# Altium footprint library S6LDC115-2002-1-1.PcbLib: 41 footprints (part 2 of 3)
Each footprint in its own frame and in the unit in brackets; x right, y up, seen from the top. Pads: shape width x height; smd on the part's side, far side on the other; paste and mask are expansions set on the pad; w line width, h text height; cw(c..) or ccw(c..) is an arc to the next point about the centre after c.
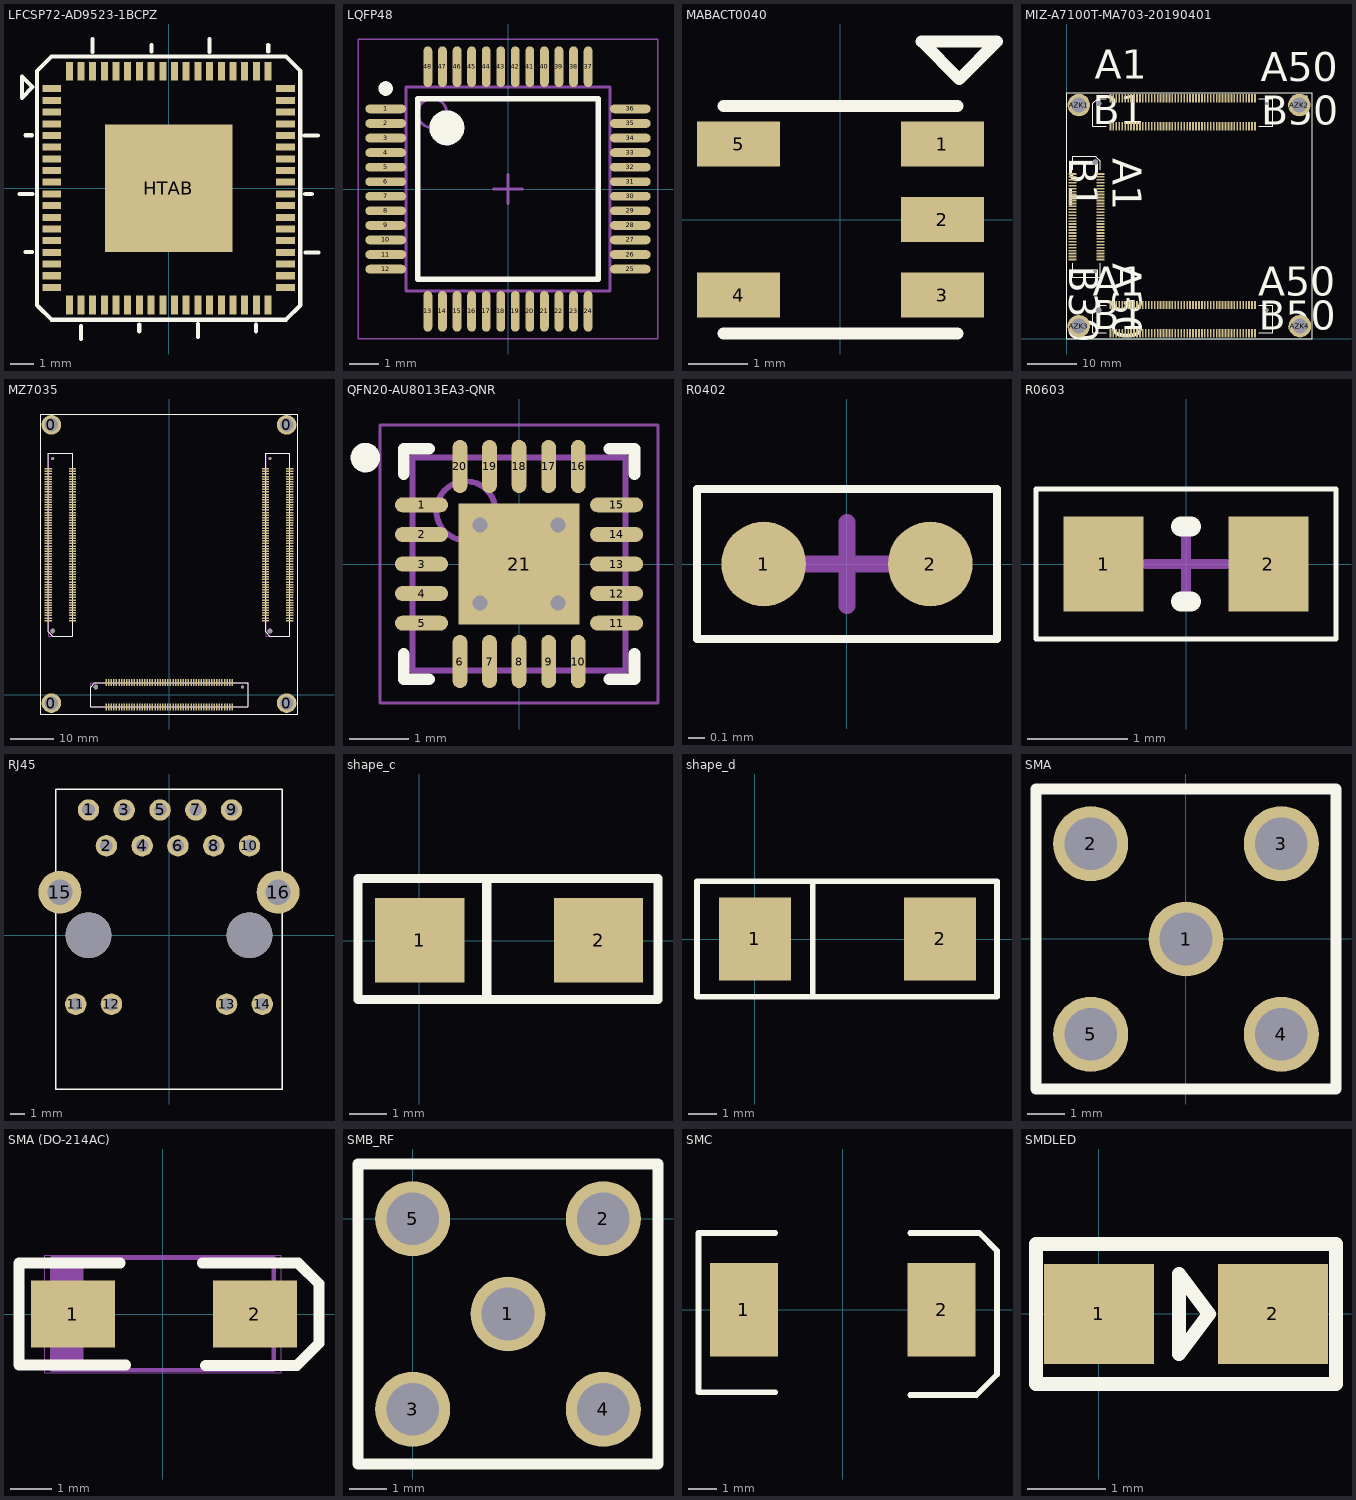
[diagram p1: the footprints below, top view; thin cyan lines are the x and y axes]

## LFCSP72-AD9523-1BCPZ [mm]
pads (73):
  rect 0.8x0.3 smd: 1(-5,4.25) 2(-5,3.75) 3(-5,3.25) 4(-5,2.75) 5(-5,2.25) 6(-5,1.75) 7(-5,1.25) 8(-5,0.75) 9(-5,0.25) 10(-5,-0.25) 11(-5,-0.75) 12(-5,-1.25) 13(-5,-1.75) 14(-5,-2.25) 15(-5,-2.75) 16(-5,-3.25) 17(-5,-3.75) 18(-5,-4.25) 37(5,-4.25) 38(5,-3.75) 39(5,-3.25) 40(5,-2.75) 41(5,-2.25) 42(5,-1.75) 43(5,-1.25) 44(5,-0.75) 45(5,-0.25) 46(5,0.25) 47(5,0.75) 48(5,1.25) 49(5,1.75) 50(5,2.25) 51(5,2.75) 52(5,3.25) 53(5,3.75) 54(5,4.25)
  rect 0.3x0.8 smd: 19(-4.25,-5) 20(-3.75,-5) 21(-3.25,-5) 22(-2.75,-5) 23(-2.25,-5) 24(-1.75,-5) 25(-1.25,-5) 26(-0.75,-5) 27(-0.25,-5) 28(0.25,-5) 29(0.75,-5) 30(1.25,-5) 31(1.75,-5) 32(2.25,-5) 33(2.75,-5) 34(3.25,-5) 35(3.75,-5) 36(4.25,-5) 55(4.25,5) 56(3.75,5) 57(3.25,5) 58(2.75,5) 59(2.25,5) 60(1.75,5) 61(1.25,5) 62(0.75,5) 63(0.25,5) 64(-0.25,5) 65(-0.75,5) 66(-1.25,5) 67(-1.75,5) 68(-2.25,5) 69(-2.75,5) 70(-3.25,5) 71(-3.75,5) 72(-4.25,5)
  rect 5.45x5.45 smd: HTAB(0,0)
Top Overlay:
  lines w0.178: -6.375,-0.254 -5.817,-0.254 ; -6.121,-2.739 -5.842,-2.739 ; -6.121,2.261 -5.842,2.261 ; -3.744,-6.455 -3.744,-5.897 ; -3.254,5.817 -3.254,6.375 ; -1.261,-6.121 -1.261,-5.842 ; -0.739,5.842 -0.739,6.121 ; 1.254,-6.375 1.254,-5.817 ; 1.746,5.817 1.746,6.375 ; 3.739,-6.121 3.739,-5.842 ; 4.261,5.842 4.261,6.121 ; 5.817,2.254 6.375,2.254 ; 5.842,-0.261 6.121,-0.261 ; 5.846,-2.754 6.405,-2.754 ; -6.274,3.861 -5.817,4.318 -6.274,4.775 -6.274,3.861 ; -5.63,-5.013 -5.013,-5.63 5.013,-5.63 5.63,-5.013 5.63,5.013 5.013,5.63 -5.013,5.63 -5.63,5.013 -5.63,-5.013

## LQFP48 [mm]
height 1.6
pads (48):
  oval 1.4x0.3 smd: 1(-4.2,2.75) 2(-4.2,2.25) 3(-4.2,1.75) 4(-4.2,1.25) 5(-4.2,0.75) 6(-4.2,0.25) 7(-4.2,-0.25) 8(-4.2,-0.75) 9(-4.2,-1.25) 10(-4.2,-1.75) 11(-4.2,-2.25) 12(-4.2,-2.75) 25(4.2,-2.75) 26(4.2,-2.25) 27(4.2,-1.75) 28(4.2,-1.25) 29(4.2,-0.75) 30(4.2,-0.25) 31(4.2,0.25) 32(4.2,0.75) 33(4.2,1.25) 34(4.2,1.75) 35(4.2,2.25) 36(4.2,2.75)
  oval 0.3x1.4 smd: 13(-2.75,-4.2) 14(-2.25,-4.2) 15(-1.75,-4.2) 16(-1.25,-4.2) 17(-0.75,-4.2) 18(-0.25,-4.2) 19(0.25,-4.2) 20(0.75,-4.2) 21(1.25,-4.2) 22(1.75,-4.2) 23(2.25,-4.2) 24(2.75,-4.2) 37(2.75,4.2) 38(2.25,4.2) 39(1.75,4.2) 40(1.25,4.2) 41(0.75,4.2) 42(0.25,4.2) 43(-0.25,4.2) 44(-0.75,4.2) 45(-1.25,4.2) 46(-1.75,4.2) 47(-2.25,4.2) 48(-2.75,4.2)
Top Overlay:
  circle w0.25: c-4.2,3.45 r0.125
  circle w0.6: c-2.1,2.1 r0.3
  lines w0.2: -3.1,-3.1 -3.1,3.1 3.1,3.1 3.1,-3.1 -3.1,-3.1
Mechanical 13:
  circle w0.1: c-2.6,2.6 r0.5
  lines w0.1: -3.5,-3.5 -3.5,3.5 3.5,3.5 3.5,-3.5 -3.5,-3.5
Mechanical 15:
  lines w0.05: -5.15,-5.15 -5.15,5.15 5.15,5.15 5.15,-5.15 -5.15,-5.15
  lines w0.1: -0.5,0 0.5,0 ; 0,-0.5 0,0.5
3D body: height 1.6, standoff 0.05, extent -3.5,-3.5 3.5,3.5

## MABACT0040 [mm]
pads (5):
  rect 1.4x0.76 smd: 1(1.715,1.27) 2(1.715,0) 3(1.715,-1.27) 4(-1.715,-1.27) 5(-1.715,1.27)
Top Overlay:
  lines w0.2: -1.97,-1.915 1.97,-1.915 ; -1.97,1.915 1.97,1.915 ; 1.365,3 2,2.365 2.635,3 1.365,3

## MIZ-A7100T-MA703-20190401 [mm]
pads (270):
  round 4.57 hole 3.1: AZK1(2.502,47.498) AZK2(47.333,47.498) AZK3(2.502,2.54) AZK4(47.46,2.54)
  rect 0.35x1.7 smd: Y-A1(8.922,48.857) Y-A2(9.522,48.857) Y-A3(10.122,48.857) Y-A4(10.722,48.857) Y-A5(11.322,48.857) Y-A6(11.922,48.857) Y-A7(12.522,48.857) Y-A8(13.122,48.857) Y-A9(13.722,48.857) Y-A10(14.322,48.857) Y-A11(14.922,48.857) Y-A12(15.522,48.857) Y-A13(16.122,48.857) Y-A14(16.722,48.857) Y-A15(17.322,48.857) Y-A16(17.922,48.857) Y-A17(18.522,48.857) Y-A18(19.122,48.857) Y-A19(19.722,48.857) Y-A20(20.322,48.857) Y-A21(20.922,48.857) Y-A22(21.522,48.857) Y-A23(22.122,48.857) Y-A24(22.722,48.857) Y-A25(23.322,48.857) Y-A26(23.922,48.857) Y-A27(24.522,48.857) Y-A28(25.122,48.857) Y-A29(25.722,48.857) Y-A30(26.322,48.857) Y-A31(26.922,48.857) Y-A32(27.522,48.857) Y-A33(28.122,48.857) Y-A34(28.722,48.857) Y-A35(29.322,48.857) Y-A36(29.922,48.857) Y-A37(30.522,48.857) Y-A38(31.122,48.857) Y-A39(31.722,48.857) Y-A40(32.322,48.857) Y-A41(32.922,48.857) Y-A42(33.522,48.857) Y-A43(34.122,48.857) Y-A44(34.722,48.857) Y-A45(35.322,48.857) Y-A46(35.922,48.857) Y-A47(36.522,48.857) Y-A48(37.122,48.857) Y-A49(37.722,48.857) Y-A50(38.322,48.857) Y-B1(8.922,43.157) Y-B2(9.522,43.157) Y-B3(10.122,43.157) Y-B4(10.722,43.157) Y-B5(11.322,43.157) Y-B6(11.922,43.157) Y-B7(12.522,43.157) Y-B8(13.122,43.157) Y-B9(13.722,43.157) Y-B10(14.322,43.157) Y-B11(14.922,43.157) Y-B12(15.522,43.157) Y-B13(16.122,43.157) Y-B14(16.722,43.157) Y-B15(17.322,43.157) Y-B16(17.922,43.157) Y-B17(18.522,43.157) Y-B18(19.122,43.157) Y-B19(19.722,43.157) Y-B20(20.322,43.157) Y-B21(20.922,43.157) Y-B22(21.522,43.157) Y-B23(22.122,43.157) Y-B24(22.722,43.157) Y-B25(23.322,43.157) Y-B26(23.922,43.157) Y-B27(24.522,43.157) Y-B28(25.122,43.157) Y-B29(25.722,43.157) Y-B30(26.322,43.157) Y-B31(26.922,43.157) Y-B32(27.522,43.157) Y-B33(28.122,43.157) Y-B34(28.722,43.157) Y-B35(29.322,43.157) Y-B36(29.922,43.157) Y-B37(30.522,43.157) Y-B38(31.122,43.157) Y-B39(31.722,43.157) Y-B40(32.322,43.157) Y-B41(32.922,43.157) Y-B42(33.522,43.157) Y-B43(34.122,43.157) Y-B44(34.722,43.157) Y-B45(35.322,43.157) Y-B46(35.922,43.157) Y-B47(36.522,43.157) Y-B48(37.122,43.157) Y-B49(37.722,43.157) Y-B50(38.322,43.157) Z-A1(8.922,6.82) Z-A2(9.522,6.82) Z-A3(10.122,6.82) Z-A4(10.722,6.82) Z-A5(11.322,6.82) Z-A6(11.922,6.82) Z-A7(12.522,6.82) Z-A8(13.122,6.82) Z-A9(13.722,6.82) Z-A10(14.322,6.82) Z-A11(14.922,6.82) Z-A12(15.522,6.82) Z-A13(16.122,6.82) Z-A14(16.722,6.82) Z-A15(17.322,6.82) Z-A16(17.922,6.82) Z-A17(18.522,6.82) Z-A18(19.122,6.82) Z-A19(19.722,6.82) Z-A20(20.322,6.82) Z-A21(20.922,6.82) Z-A22(21.522,6.82) Z-A23(22.122,6.82) Z-A24(22.722,6.82) Z-A25(23.322,6.82) Z-A26(23.922,6.82) Z-A27(24.522,6.82) Z-A28(25.122,6.82) Z-A29(25.722,6.82) Z-A30(26.322,6.82) Z-A31(26.922,6.82) Z-A32(27.522,6.82) Z-A33(28.122,6.82) Z-A34(28.722,6.82) Z-A35(29.322,6.82) Z-A36(29.922,6.82) Z-A37(30.522,6.82) Z-A38(31.122,6.82) Z-A39(31.722,6.82) Z-A40(32.322,6.82) Z-A41(32.922,6.82) Z-A42(33.522,6.82) Z-A43(34.122,6.82) Z-A44(34.722,6.82) Z-A45(35.322,6.82) Z-A46(35.922,6.82) Z-A47(36.522,6.82) Z-A48(37.122,6.82) Z-A49(37.722,6.82) Z-A50(38.322,6.82) Z-B1(8.922,1.12) Z-B2(9.522,1.12) Z-B3(10.122,1.12) Z-B4(10.722,1.12) Z-B5(11.322,1.12) Z-B6(11.922,1.12) Z-B7(12.522,1.12) Z-B8(13.122,1.12) Z-B9(13.722,1.12) Z-B10(14.322,1.12) Z-B11(14.922,1.12) Z-B12(15.522,1.12) Z-B13(16.122,1.12) Z-B14(16.722,1.12) Z-B15(17.322,1.12) Z-B16(17.922,1.12) Z-B17(18.522,1.12) Z-B18(19.122,1.12) Z-B19(19.722,1.12) Z-B20(20.322,1.12) Z-B21(20.922,1.12) Z-B22(21.522,1.12) Z-B23(22.122,1.12) Z-B24(22.722,1.12) Z-B25(23.322,1.12) Z-B26(23.922,1.12) Z-B27(24.522,1.12) Z-B28(25.122,1.12) Z-B29(25.722,1.12) Z-B30(26.322,1.12) Z-B31(26.922,1.12) Z-B32(27.522,1.12) Z-B33(28.122,1.12) Z-B34(28.722,1.12) Z-B35(29.322,1.12) Z-B36(29.922,1.12) Z-B37(30.522,1.12) Z-B38(31.122,1.12) Z-B39(31.722,1.12) Z-B40(32.322,1.12) Z-B41(32.922,1.12) Z-B42(33.522,1.12) Z-B43(34.122,1.12) Z-B44(34.722,1.12) Z-B45(35.322,1.12) Z-B46(35.922,1.12) Z-B47(36.522,1.12) Z-B48(37.122,1.12) Z-B49(37.722,1.12) Z-B50(38.322,1.12)
  round 1.1 hole 1.1: Y-C1(6.522,47.807) Z-C1(6.522,5.77) ZH-C1(5.859,35.885)
  round 0.7 hole 0.7: Y-C2(40.722,47.807) Z-C2(40.722,5.77) ZH-C2(5.859,13.685)
  rect 1.7x0.35 smd: ZH-A1(6.909,33.485) ZH-A2(6.909,32.885) ZH-A3(6.909,32.285) ZH-A4(6.909,31.685) ZH-A5(6.909,31.085) ZH-A6(6.909,30.485) ZH-A7(6.909,29.885) ZH-A8(6.909,29.285) ZH-A9(6.909,28.685) ZH-A10(6.909,28.085) ZH-A11(6.909,27.485) ZH-A12(6.909,26.885) ZH-A13(6.909,26.285) ZH-A14(6.909,25.685) ZH-A15(6.909,25.085) ZH-A16(6.909,24.485) ZH-A17(6.909,23.885) ZH-A18(6.909,23.285) ZH-A19(6.909,22.685) ZH-A20(6.909,22.085) ZH-A21(6.909,21.485) ZH-A22(6.909,20.885) ZH-A23(6.909,20.285) ZH-A24(6.909,19.685) ZH-A25(6.909,19.085) ZH-A26(6.909,18.485) ZH-A27(6.909,17.885) ZH-A28(6.909,17.285) ZH-A29(6.909,16.685) ZH-A30(6.909,16.085) ZH-B1(1.209,33.485) ZH-B2(1.209,32.885) ZH-B3(1.209,32.285) ZH-B4(1.209,31.685) ZH-B5(1.209,31.085) ZH-B6(1.209,30.485) ZH-B7(1.209,29.885) ZH-B8(1.209,29.285) ZH-B9(1.209,28.685) ZH-B10(1.209,28.085) ZH-B11(1.209,27.485) ZH-B12(1.209,26.885) ZH-B13(1.209,26.285) ZH-B14(1.209,25.685) ZH-B15(1.209,25.085) ZH-B16(1.209,24.485) ZH-B17(1.209,23.885) ZH-B18(1.209,23.285) ZH-B19(1.209,22.685) ZH-B20(1.209,22.085) ZH-B21(1.209,21.485) ZH-B22(1.209,20.885) ZH-B23(1.209,20.285) ZH-B24(1.209,19.685) ZH-B25(1.209,19.085) ZH-B26(1.209,18.485) ZH-B27(1.209,17.885) ZH-B28(1.209,17.285) ZH-B29(1.209,16.685) ZH-B30(1.209,16.085)
Top Overlay:
  lines w0.254: 1.259,15.285 1.259,12.485 6.859,12.485 6.859,15.285 ; 1.259,34.285 1.259,37.085 5.859,37.085 6.859,36.085 6.859,34.285 ; 8.122,1.17 5.322,1.17 5.322,5.77 6.322,6.77 8.122,6.77 ; 8.122,43.207 5.322,43.207 5.322,47.807 6.322,48.807 8.122,48.807 ; 39.122,1.17 41.922,1.17 41.922,6.77 39.122,6.77 ; 39.122,43.207 41.922,43.207 41.922,48.807 39.122,48.807 ; 0,0 0,50 50,50 50,0 0,0
  text "A1" at 7.47,36.723 h10
  text "B30" at -1.42,14.803 h10
  text "A30" at 7.419,15.285 h10
  text "B1" at -1.42,36.926 h10
  text "A1" at 5.692,50.922 h10
  text "B50" at 39.601,41.549 h10
  text "A50" at 39.499,50.373 h10
  text "B1" at 5.336,41.676 h10
  text "A1" at 5.322,6.77 h10
  text "B50" at 39.07,-0.08 h10
  text "A50" at 38.95,6.789 h10
  text "B1" at 5.331,-0.043 h10

## MZ7035 [mm]
height 1.2
pads (350):
  round 4.57 hole 3.1: 0(-27.489,62.943) 0(-27.489,-1.954) 0(27.401,-1.954) 0(27.401,62.943)
  round 1.092 hole 1.1: 0(-27.173,14.873) 0(-17.1,1.8) 0(23.485,14.873)
  round 0.711 hole 0.75: 0(-27.173,55.073) 0(17.1,1.8) 0(23.485,55.073)
  rect 1.7x0.35 smd: A1_1(-22.523,17.273) A1_2(-22.523,17.873) A1_3(-22.523,18.473) A1_4(-22.523,19.073) A1_5(-22.523,19.673) A1_6(-22.523,20.273) A1_7(-22.523,20.873) A1_8(-22.523,21.473) A1_9(-22.523,22.073) A1_10(-22.523,22.673) A1_11(-22.523,23.273) A1_12(-22.523,23.873) A1_13(-22.523,24.473) A1_14(-22.523,25.073) A1_15(-22.523,25.673) A1_16(-22.523,26.273) A1_17(-22.523,26.873) A1_18(-22.523,27.473) A1_19(-22.523,28.073) A1_20(-22.523,28.673) A1_21(-22.523,29.273) A1_22(-22.523,29.873) A1_23(-22.523,30.473) A1_24(-22.523,31.073) A1_25(-22.523,31.673) A1_26(-22.523,32.273) A1_27(-22.523,32.873) A1_28(-22.523,33.473) A1_29(-22.523,34.073) A1_30(-22.523,34.673) A1_31(-22.523,35.273) A1_32(-22.523,35.873) A1_33(-22.523,36.473) A1_34(-22.523,37.073) A1_35(-22.523,37.673) A1_36(-22.523,38.273) A1_37(-22.523,38.873) A1_38(-22.523,39.473) A1_39(-22.523,40.073) A1_40(-22.523,40.673) A1_41(-22.523,41.273) A1_42(-22.523,41.873) A1_43(-22.523,42.473) A1_44(-22.523,43.073) A1_45(-22.523,43.673) A1_46(-22.523,44.273) A1_47(-22.523,44.873) A1_48(-22.523,45.473) A1_49(-22.523,46.073) A1_50(-22.523,46.673) A1_51(-22.523,47.273) A1_52(-22.523,47.873) A1_53(-22.523,48.473) A1_54(-22.523,49.073) A1_55(-22.523,49.673) A1_56(-22.523,50.273) A1_57(-22.523,50.873) A1_58(-22.523,51.473) A1_59(-22.523,52.073) A1_60(-22.523,52.673) A3_1(28.135,17.273) A3_2(28.135,17.873) A3_3(28.135,18.473) A3_4(28.135,19.073) A3_5(28.135,19.673) A3_6(28.135,20.273) A3_7(28.135,20.873) A3_8(28.135,21.473) A3_9(28.135,22.073) A3_10(28.135,22.673) A3_11(28.135,23.273) A3_12(28.135,23.873) A3_13(28.135,24.473) A3_14(28.135,25.073) A3_15(28.135,25.673) A3_16(28.135,26.273) A3_17(28.135,26.873) A3_18(28.135,27.473) A3_19(28.135,28.073) A3_20(28.135,28.673) A3_21(28.135,29.273) A3_22(28.135,29.873) A3_23(28.135,30.473) A3_24(28.135,31.073) A3_25(28.135,31.673) A3_26(28.135,32.273) A3_27(28.135,32.873) A3_28(28.135,33.473) A3_29(28.135,34.073) A3_30(28.135,34.673) A3_31(28.135,35.273) A3_32(28.135,35.873) A3_33(28.135,36.473) A3_34(28.135,37.073) A3_35(28.135,37.673) A3_36(28.135,38.273) A3_37(28.135,38.873) A3_38(28.135,39.473) A3_39(28.135,40.073) A3_40(28.135,40.673) A3_41(28.135,41.273) A3_42(28.135,41.873) A3_43(28.135,42.473) A3_44(28.135,43.073) A3_45(28.135,43.673) A3_46(28.135,44.273) A3_47(28.135,44.873) A3_48(28.135,45.473) A3_49(28.135,46.073) A3_50(28.135,46.673) A3_51(28.135,47.273) A3_52(28.135,47.873) A3_53(28.135,48.473) A3_54(28.135,49.073) A3_55(28.135,49.673) A3_56(28.135,50.273) A3_57(28.135,50.873) A3_58(28.135,51.473) A3_59(28.135,52.073) A3_60(28.135,52.673) B1_1(-28.223,17.273) B1_2(-28.223,17.873) B1_3(-28.223,18.473) B1_4(-28.223,19.073) B1_5(-28.223,19.673) B1_6(-28.223,20.273) B1_7(-28.223,20.873) B1_8(-28.223,21.473) B1_9(-28.223,22.073) B1_10(-28.223,22.673) B1_11(-28.223,23.273) B1_12(-28.223,23.873) B1_13(-28.223,24.473) B1_14(-28.223,25.073) B1_15(-28.223,25.673) B1_16(-28.223,26.273) B1_17(-28.223,26.873) B1_18(-28.223,27.473) B1_19(-28.223,28.073) B1_20(-28.223,28.673) B1_21(-28.223,29.273) B1_22(-28.223,29.873) B1_23(-28.223,30.473) B1_24(-28.223,31.073) B1_25(-28.223,31.673) B1_26(-28.223,32.273) B1_27(-28.223,32.873) B1_28(-28.223,33.473) B1_29(-28.223,34.073) B1_30(-28.223,34.673) B1_31(-28.223,35.273) B1_32(-28.223,35.873) B1_33(-28.223,36.473) B1_34(-28.223,37.073) B1_35(-28.223,37.673) B1_36(-28.223,38.273) B1_37(-28.223,38.873) B1_38(-28.223,39.473) B1_39(-28.223,40.073) B1_40(-28.223,40.673) B1_41(-28.223,41.273) B1_42(-28.223,41.873) B1_43(-28.223,42.473) B1_44(-28.223,43.073) B1_45(-28.223,43.673) B1_46(-28.223,44.273) B1_47(-28.223,44.873) B1_48(-28.223,45.473) B1_49(-28.223,46.073) B1_50(-28.223,46.673) B1_51(-28.223,47.273) B1_52(-28.223,47.873) B1_53(-28.223,48.473) B1_54(-28.223,49.073) B1_55(-28.223,49.673) B1_56(-28.223,50.273) B1_57(-28.223,50.873) B1_58(-28.223,51.473) B1_59(-28.223,52.073) B1_60(-28.223,52.673) B3_1(22.435,17.273) B3_2(22.435,17.873) B3_3(22.435,18.473) B3_4(22.435,19.073) B3_5(22.435,19.673) B3_6(22.435,20.273) B3_7(22.435,20.873) B3_8(22.435,21.473) B3_9(22.435,22.073) B3_10(22.435,22.673) B3_11(22.435,23.273) B3_12(22.435,23.873) B3_13(22.435,24.473) B3_14(22.435,25.073) B3_15(22.435,25.673) B3_16(22.435,26.273) B3_17(22.435,26.873) B3_18(22.435,27.473) B3_19(22.435,28.073) B3_20(22.435,28.673) B3_21(22.435,29.273) B3_22(22.435,29.873) B3_23(22.435,30.473) B3_24(22.435,31.073) B3_25(22.435,31.673) B3_26(22.435,32.273) B3_27(22.435,32.873) B3_28(22.435,33.473) B3_29(22.435,34.073) B3_30(22.435,34.673) B3_31(22.435,35.273) B3_32(22.435,35.873) B3_33(22.435,36.473) B3_34(22.435,37.073) B3_35(22.435,37.673) B3_36(22.435,38.273) B3_37(22.435,38.873) B3_38(22.435,39.473) B3_39(22.435,40.073) B3_40(22.435,40.673) B3_41(22.435,41.273) B3_42(22.435,41.873) B3_43(22.435,42.473) B3_44(22.435,43.073) B3_45(22.435,43.673) B3_46(22.435,44.273) B3_47(22.435,44.873) B3_48(22.435,45.473) B3_49(22.435,46.073) B3_50(22.435,46.673) B3_51(22.435,47.273) B3_52(22.435,47.873) B3_53(22.435,48.473) B3_54(22.435,49.073) B3_55(22.435,49.673) B3_56(22.435,50.273) B3_57(22.435,50.873) B3_58(22.435,51.473) B3_59(22.435,52.073) B3_60(22.435,52.673)
  rect 0.35x1.7 smd: A2_1(-14.7,-2.85) A2_2(-14.1,-2.85) A2_3(-13.5,-2.85) A2_4(-12.9,-2.85) A2_5(-12.3,-2.85) A2_6(-11.7,-2.85) A2_7(-11.1,-2.85) A2_8(-10.5,-2.85) A2_9(-9.9,-2.85) A2_10(-9.3,-2.85) A2_11(-8.7,-2.85) A2_12(-8.1,-2.85) A2_13(-7.5,-2.85) A2_14(-6.9,-2.85) A2_15(-6.3,-2.85) A2_16(-5.7,-2.85) A2_17(-5.1,-2.85) A2_18(-4.5,-2.85) A2_19(-3.9,-2.85) A2_20(-3.3,-2.85) A2_21(-2.7,-2.85) A2_22(-2.1,-2.85) A2_23(-1.5,-2.85) A2_24(-0.9,-2.85) A2_25(-0.3,-2.85) A2_26(0.3,-2.85) A2_27(0.9,-2.85) A2_28(1.5,-2.85) A2_29(2.1,-2.85) A2_30(2.7,-2.85) A2_31(3.3,-2.85) A2_32(3.9,-2.85) A2_33(4.5,-2.85) A2_34(5.1,-2.85) A2_35(5.7,-2.85) A2_36(6.3,-2.85) A2_37(6.9,-2.85) A2_38(7.5,-2.85) A2_39(8.1,-2.85) A2_40(8.7,-2.85) A2_41(9.3,-2.85) A2_42(9.9,-2.85) A2_43(10.5,-2.85) A2_44(11.1,-2.85) A2_45(11.7,-2.85) A2_46(12.3,-2.85) A2_47(12.9,-2.85) A2_48(13.5,-2.85) A2_49(14.1,-2.85) A2_50(14.7,-2.85) B2_1(-14.7,2.85) B2_2(-14.1,2.85) B2_3(-13.5,2.85) B2_4(-12.9,2.85) B2_5(-12.3,2.85) B2_6(-11.7,2.85) B2_7(-11.1,2.85) B2_8(-10.5,2.85) B2_9(-9.9,2.85) B2_10(-9.3,2.85) B2_11(-8.7,2.85) B2_12(-8.1,2.85) B2_13(-7.5,2.85) B2_14(-6.9,2.85) B2_15(-6.3,2.85) B2_16(-5.7,2.85) B2_17(-5.1,2.85) B2_18(-4.5,2.85) B2_19(-3.9,2.85) B2_20(-3.3,2.85) B2_21(-2.7,2.85) B2_22(-2.1,2.85) B2_23(-1.5,2.85) B2_24(-0.9,2.85) B2_25(-0.3,2.85) B2_26(0.3,2.85) B2_27(0.9,2.85) B2_28(1.5,2.85) B2_29(2.1,2.85) B2_30(2.7,2.85) B2_31(3.3,2.85) B2_32(3.9,2.85) B2_33(4.5,2.85) B2_34(5.1,2.85) B2_35(5.7,2.85) B2_36(6.3,2.85) B2_37(6.9,2.85) B2_38(7.5,2.85) B2_39(8.1,2.85) B2_40(8.7,2.85) B2_41(9.3,2.85) B2_42(9.9,2.85) B2_43(10.5,2.85) B2_44(11.1,2.85) B2_45(11.7,2.85) B2_46(12.3,2.85) B2_47(12.9,2.85) B2_48(13.5,2.85) B2_49(14.1,2.85) B2_50(14.7,2.85)
Top Overlay:
  lines w0.1: -28.173,14.673 -28.173,56.282 -22.573,56.282 -22.573,13.673 -27.173,13.673 -28.173,14.673 ; -18.3,-2.8 18.3,-2.8 18.3,2.8 -17.3,2.8 -18.3,1.8 -18.3,-2.8 ; 22.485,14.673 22.485,56.282 28.085,56.282 28.085,13.673 23.485,13.673 22.485,14.673
  lines w0.203: -30.029,-4.494 -30.029,65.457
  lines w0.254: -30.029,-4.494 29.941,-4.494 29.941,65.457 -30.029,65.457
Mechanical 7:
  lines w0.025: -28.173,13.673 -28.173,56.282 -22.573,56.282 -22.573,13.673 -28.173,13.673 ; -18.3,-2.8 18.3,-2.8 18.3,2.8 -18.3,2.8 -18.3,-2.8 ; 22.485,13.673 22.485,56.282 28.085,56.282 28.085,13.673 22.485,13.673

## QFN20-AU8013EA3-QNR [mm]
height 0.9
pads (21):
  oval 0.9x0.25 smd: 1(-1.65,1) 2(-1.65,0.5) 3(-1.65,0) 4(-1.65,-0.5) 5(-1.65,-1) 11(1.65,-1) 12(1.65,-0.5) 13(1.65,0) 14(1.65,0.5) 15(1.65,1)
  oval 0.25x0.9 smd: 6(-1,-1.65) 7(-0.5,-1.65) 8(0,-1.65) 9(0.5,-1.65) 10(1,-1.65) 16(1,1.65) 17(0.5,1.65) 18(0,1.65) 19(-0.5,1.65) 20(-1,1.65)
  rect 2.05x2.05 smd: 21(0,0)
via -0.66,-0.66 diameter 0.457 hole 0.254
via -0.66,0.66 diameter 0.457 hole 0.254
via 0.66,0.66 diameter 0.457 hole 0.254
via 0.66,-0.66 diameter 0.457 hole 0.254
Top Overlay:
  circle w0.25: c-2.6,1.8 r0.125
  lines w0.2: -1.95,-1.525 -1.95,-1.95 -1.525,-1.95 ; -1.95,1.525 -1.95,1.95 -1.525,1.95 ; 1.525,-1.95 1.95,-1.95 1.95,-1.525 ; 1.525,1.95 1.95,1.95 1.95,1.525
Mechanical 13:
  circle w0.1: c-0.9,0.9 r0.5
  lines w0.1: -1.8,-1.8 -1.8,1.8 1.8,1.8 1.8,-1.8 -1.8,-1.8
Mechanical 15:
  lines w0.05: -2.35,-2.35 -2.35,2.35 2.35,2.35 2.35,-2.35 -2.35,-2.35
  lines w0.1: -0.5,0 0.5,0 ; 0,-0.5 0,0.5
3D body: height 0.9, standoff 0, extent -1.8,-1.8 1.8,1.8

## R0402 [mil]
height 11.81
pads (2):
  round 20 smd: 1(-19.68,0) 2(19.68,0)
Top Overlay:
  lines w1.97: -35.43,-17.72 -35.43,17.72 35.43,17.72 35.43,-17.72 -35.43,-17.72
Mechanical 15:
  lines w1.97: -35.43,-17.72 -35.43,17.72 35.43,17.72 35.43,-17.72 -35.43,-17.72
  lines w3.94: -9.84,0 9.84,0 ; 0,-9.84 0,9.84

## R0603 [mm]
height 1.2
pads (2):
  rect 0.8x0.95 smd: 1(-0.825,0) 2(0.825,0)
Top Overlay:
  lines w0.05: -1.5,-0.75 1.5,-0.75 1.5,0.75 -1.5,0.75 -1.5,-0.75
  lines w0.2: -0.05,-0.375 0.05,-0.375 ; -0.05,0.375 0.05,0.375
Mechanical 15:
  lines w0.1: -0.4,0 0.4,0 ; 0,-0.4 0,0.4

## RJ45 [mil]
height 47.24
pads (18):
  round 60 hole 35: 1(-225,350) 2(-175,250) 3(-125,350) 4(-75,250) 5(-25,350) 6(25,250) 7(75,350) 8(125,250) 9(175,350) 10(225,250) 11(-260.83,-192.91) 12(-160.83,-192.91) 13(160.83,-192.91) 14(260.83,-192.91)
  round 120 hole 70: 15(-304.92,120.08) 16(304.92,120.08)
  round 128 hole 128: " "(-225,0) " "(225,0)
Top Overlay:
  lines w3.94: -316.93,-429.92 -316.93,408.66 316.93,408.66 316.93,-429.92 -316.93,-429.92
Mechanical 6:
  text "1" at -225,324.9 h30
  text "15" at -304.92,82.38 h30
  text "16" at 304.92,82.38 h30
  text "2" at -175,224.9 h30
  text "3" at -125,324.9 h30
  text "4" at -75,224.9 h30
  text "7" at 75,324.9 h30
  text "5" at -25,324.9 h30
  text "6" at 25,224.9 h30
  text "8" at 125,224.9 h30
  text "9" at 175,324.9 h30
Mechanical 7:
  lines w1: -316.93,-429.92 -316.93,408.66 316.93,408.66 316.93,-429.92 -316.93,-429.92

## shape_c [mil]
pads (2):
  rect 95x90 smd: 1(0.76,0.43) 2(190.76,0.43)
Top Overlay:
  lines w10: -65,-62.57 254,-62.57 254,66 -65,66 -65,-60 ; 72,-62.41 72,60

## shape_d [mil]
height 184.65
pads (2):
  rect 100x115 smd: 1(0.17,0.2) 2(256.17,0.2)
Top Overlay:
  lines w8: 80,-80 80,80 ; -80,-80 -80,80 335,80 335,-80 -80,-80

## SMA [mm]
pads (5):
  round 2 hole 1.4: 1(0,0) 2(-2.54,2.54) 3(2.54,2.54) 4(2.54,-2.54) 5(-2.54,-2.54)
Top Overlay:
  lines w0.305: -4,-4 -4,4 4,4 4,-4 -4,-4

## SMA (DO-214AC) [mm]
height 3.2
pads (2):
  rect 2x1.6 smd: 1(-2.15,0) 2(2.2,0)
Top Overlay:
  lines w0.254: -1.016,1.22 -3.44,1.22 -3.44,-1.22 -0.889,-1.22 ; 0.94,1.22 3.23,1.22 3.73,0.72 3.73,-0.7 3.2,-1.23 1.016,-1.23
Mechanical 15:
  lines w0.1: -2.548,-1.335 -2.548,1.335 ; -2.448,-1.335 -2.448,1.335 ; -2.348,-1.335 -2.348,1.335 ; -2.248,-1.335 -2.248,1.335 ; -2.148,-1.335 -2.148,1.335 ; -2.047,-1.335 -2.047,1.335 ; -1.948,-1.335 -1.948,1.335 ; -2.648,-1.335 -2.648,1.335 2.648,1.335 2.648,-1.335 -2.648,-1.335
Mechanical 16:
  lines w0.001: -2.83,-1.4 -2.83,1.4 2.83,1.4 2.83,-1.4 -2.83,-1.4
3D body: height 2.44, standoff 0.16, extent -2.743,-1.397 2.743,1.397

## SMB_RF [mm]
pads (5):
  round 2 hole 1.4: 1(2.54,-2.54) 2(5.08,0) 3(0,-5.08) 4(5.08,-5.08) 5(0,0)
Top Overlay:
  lines w0.305: -1.46,-6.54 6.54,-6.54 6.54,1.46 -1.46,1.46 -1.46,-6.54

## SMC [mm] "DO-214-AB/SMC; 2 C-Bend Leads; Body 7.9 x 5.9 mm, inc. leads (LxW)"
height 2.65
pads (2):
  rect 2.4x3.3 smd: 1(-3.475,0) 2(3.475,0)
Top Overlay:
  lines w0.2: -2.375,-2.9 -5.075,-2.9 -5.075,2.7 -2.375,2.7 ; 2.375,-3 4.7,-3 5.425,-2.275 5.425,2.073 4.804,2.7 2.375,2.7

## SMDLED [mm]
height 3.2
pads (2):
  rect 1.4x1.27 smd: 1(0.001,-0.002) 2(2.211,-0.002)
Top Overlay:
  lines w0.178: 3.012,0.887 3.011,0.887 ; 3.011,0.887 3.011,-0.891 -0.799,-0.891 -0.799,-0.002 -0.799,0.887 3.011,0.887 ; 1.017,-0.51 1.017,0.506 1.398,-0.002 1.017,-0.51